# EAGLE library part ADUM1250 (library Eagle CMR)
Bidirectional I2C Isolators 2500Vrms 1Mbps
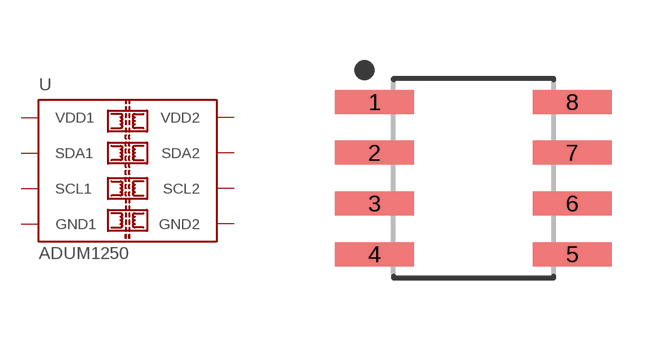
[diagram p17: symbol with the pads of SOIC_8; footprint SOIC_8]

Designator prefix U

## ADUM1250 (DIGI-KEY: ADUM1250ARZ-RL7CT-ND; DIGI-KEY_LINK: https://www.digikey.co.uk/product-detail/en/analog-devices-inc/ADUM1250ARZ-RL7/ADUM1250ARZ-RL7CT-ND/3897184; LCSC#: C13839; LCSC_LINK: https://lcsc.com/product-detail/Digital-Isolators_Analog-Devices_ADUM1250ARZ-RL7_Analog-Devices-ADI-LINEAR-ADUM1250ARZ-RL7_C13839.html; MANUFACTURER: Analog Devices; MFR#: ADUM1250ARZ-RL7)  [SOIC_8]
1  VDD1  pwr
2  SDA1
3  SCL1
4  GND1  pwr
5  GND2  pwr
6  SCL2
7  SDA2
8  VDD2  pwr

## Footprint SOIC_8 (pad centres in mm)
8-SOIC, 1.27 mm pitch, 6.00 mm span, 4.90 X 3.90 X 1.75 mm body 8-pin SOIC package with 1.27 mm pitch, 6.00 mm span with body size 4.90 X 3.90 X 1.75 mm
smd 1.968 x 0.599: 1 -2.473,1.905; 2 -2.473,0.635; 3 -2.473,-0.635; 4 -2.473,-1.905; 5 2.473,-1.905; 6 2.473,-0.635; 7 2.473,0.635; 8 2.473,1.905